# Altium schematic symbol library WE-HCFT.SchLib: 59 symbols (part 2 of 2)
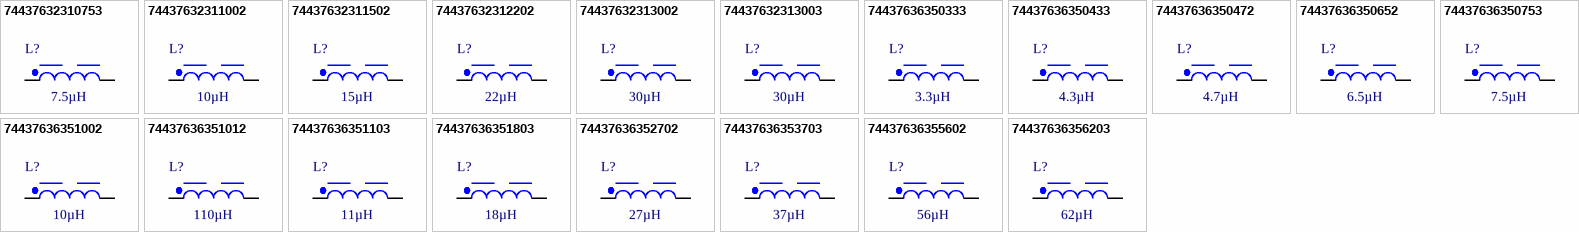
[diagram p2: symbols 74437632310753 to 74437636356203]

## 74437636356203
designator L?, comment 62µH
WE-HCFT THT High Current Inductor, size 3635, 62µH, 26.3A; Manufacturer Part Number: 74437636356203; Manufacturer: Wurth Elektronik; Case/Size Code: 3635; DC Resistance: 5.22mΩ; Inductance Tolerance: 20%; Saturation Current: 43.1A; Self Resonant Frequency: 6.19MHz; Category: Power Inductors; Match Code: WE-HCFT; ComponentLink1Description: Website Link; ComponentLink1URL: https://www.we-online.com/redexpert/article/74437636356203?ad; ComponentLink2Description: Datasheet Link; ComponentLink2URL: https://www.we-online.com/redexpert/spec/74437636356203?ad; Mount: Through Hole; Min Operating Temperature: -55°C; Max Operating Temperature: 155°C; Packaging: Tray; Length: 36mm; Width: 35.7mm; Height: 34.2mm; Inductance: 62µH; Rated Current: 26.3A
footprint WE-HCFT_3635_74437636356203
simulation model 3635_74437636356203_62u
pins: 1, 2